# EAGLE library part OPAMP_LM311 (library Active Components)
LM311 Comparator
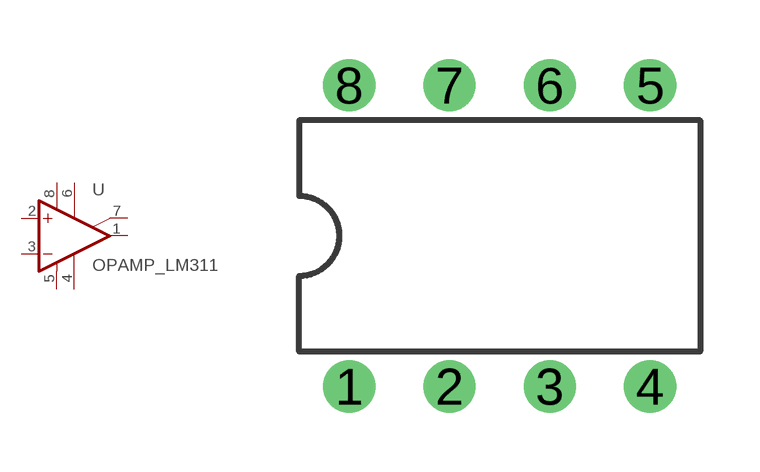
[diagram p2: symbol with the pads of DIL08; footprint DIL08]

Designator prefix -

## OPAMP_LM311  [DIL08]
1  OUT  out
2  +IN  in
3  -IN  in
4  GND  pas
5  BAL
6  BAL/STRB
7  COL_OUT  in
8  V+  pwr

## Footprint DIL08 (pad centres in mm)
Dual In Line Package
drill 0.813 pad 1.27: 1 -3.81,-3.81; 2 -1.27,-3.81; 3 1.27,-3.81; 4 3.81,-3.81; 5 3.81,3.81; 6 1.27,3.81; 7 -1.27,3.81; 8 -3.81,3.81